# Altium schematic symbol library LF SPXO009686.SchLib: 1 symbol
Pins are listed as number, name and electrical type; pins without a type are passive.

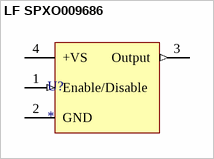
[diagram p0: symbol LF SPXO009686]

## LF SPXO009686
designator U?
IQD FREQUENCY PRODUCTS - LF SPXO009686 - OSC, CFPS-109, 32.768K, SMD 2.6 X 2.1, 3; farnell: 1674695
footprint LF SPXO009686
pins: 1 Enable/Disable (in), 2 GND (power), 3 Output (out), 4 +VS (power)